# Altium footprint library IC_NXP_Semiconductors_PCA9685PW,118_eec_IPC_A.PcbLib: 1 footprints
Each footprint in its own frame and in the unit in brackets; x right, y up, seen from the top. Pads: shape width x height; smd on the part's side, far side on the other; paste and mask are expansions set on the pad; w line width, h text height; cw(c..) or ccw(c..) is an arc to the next point about the centre after c.
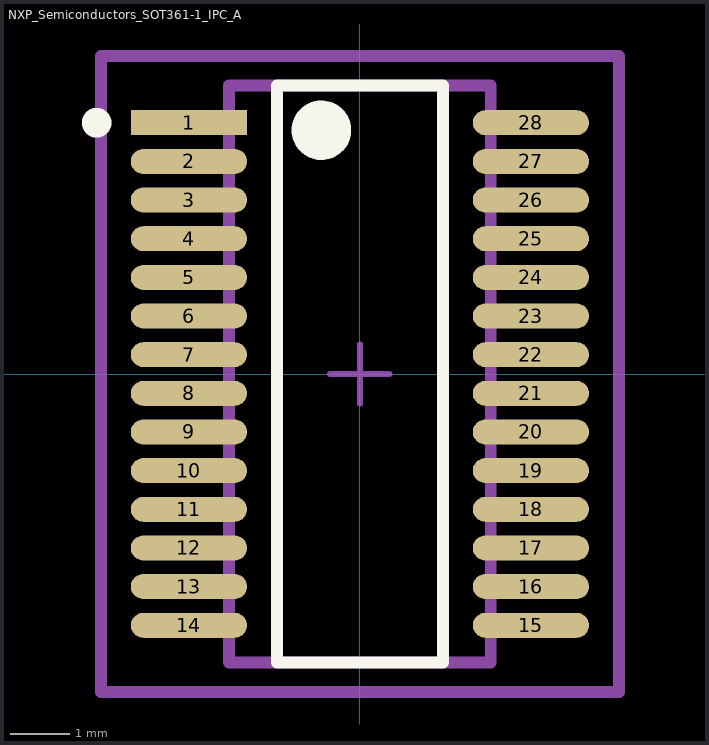
[diagram p0: the footprint, top view; thin cyan lines are the x and y axes]

## NXP_Semiconductors_SOT361-1_IPC_A [mm]
pads (28):
  rect 1.955x0.421 smd paste+0 mask+0: 1(-2.875,4.225)
  rrect100% 1.955x0.421 smd paste+0 mask+0: 2(-2.875,3.575) 3(-2.875,2.925) 4(-2.875,2.275) 5(-2.875,1.625) 6(-2.875,0.975) 7(-2.875,0.325) 8(-2.875,-0.325) 9(-2.875,-0.975) 10(-2.875,-1.625) 11(-2.875,-2.275) 12(-2.875,-2.925) 13(-2.875,-3.575) 14(-2.875,-4.225) 15(2.875,-4.225) 16(2.875,-3.575) 17(2.875,-2.925) 18(2.875,-2.275) 19(2.875,-1.625) 20(2.875,-0.975) 21(2.875,-0.325) 22(2.875,0.325) 23(2.875,0.975) 24(2.875,1.625) 25(2.875,2.275) 26(2.875,2.925) 27(2.875,3.575) 28(2.875,4.225)
Top Overlay:
  circle w0.5: c-0.648,4.1 r0.25
  circle w0.25: c-4.428,4.225 r0.125
  lines w0.2: -1.398,-4.85 1.398,-4.85 1.398,4.85 -1.398,4.85 -1.398,-4.85
Mechanical 10:
  lines w0.2: -4.353,-5.35 4.353,-5.35 4.353,5.35 -4.353,5.35 -4.353,-5.35
  text ".Designator" at 0,0 h1
Mechanical 12:
  lines w0.2: -2.2,-4.85 2.2,-4.85 2.2,4.85 -2.2,4.85 -2.2,-4.85
Mechanical 15:
  lines w0.1: -0.5,0 0.5,0 ; 0,-0.5 0,0.5
  lines w0.2: -4.353,-5.35 4.353,-5.35 4.353,5.35 -4.353,5.35 -4.353,-5.35
3D body "IC_NXP_Semiconductors_PCA9685PW,118_eec.STEP": height 0.25, standoff 0, extent -4.353,-5.35 4.353,5.35